# Altium schematic symbol library CC2590.SchLib: 1 symbol
Pins are listed as number, name and electrical type; pins without a type are passive.

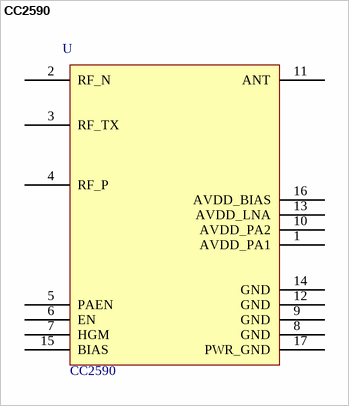
[diagram p0: symbol CC2590]

## CC2590
designator U  value CC2590  (hidden comment: *)
Manufacturer: Texas Instruments; Manufacturer Code: CC2590RGVT; Fanell Code: 1754778; Unit Price: 5,49 €
footprint QFN-16 (Footprint not found)
pins: 1 AVDD_PA1, 2 RF_N, 3 RF_TX, 4 RF_P, 5 PAEN, 6 EN, 7 HGM, 8 GND, 9 GND, 10 AVDD_PA2, 11 ANT, 12 GND, 13 AVDD_LNA, 14 GND, 15 BIAS, 16 AVDD_BIAS, 17 PWR_GND